# Altium integrated library LEDs.IntLib: 10 symbols
Pins are listed as number, name and electrical type; pins without a type are passive.

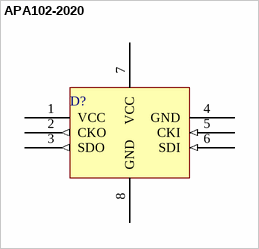
[diagram p0: symbol APA102-2020]

## APA102-2020
designator D?  (value not drawn)
DotStar Micro LEDs (APA102 2020) - Smart SMD RGB LED; Manufacturer: Adafruit Industries; PartNumber: APA102-2020; PackageReference: SMD-6; PackageDescription: SMD-6; Mounting Technology: Surface Mount
footprint APA102-2020
pins: 1 VCC (power), 2 CKO (out), 3 SDO (out), 4 GND (power), 5 CKI (in), 6 SDI (in), 7 VCC (power), 8 GND (power)


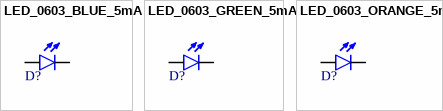
[diagram p1: symbols LED_0603_BLUE_5mA to LED_0603_ORANGE_5mA]

## LED_0603_BLUE_5mA
designator D?
PartNumber: LTST-C193TBKT-5A; Manufacturer: Lite-On Inc.; PackageReference: 0603; PackageDescription: 0603 (1608 Metric); Mounting Technology: Surface Mount
footprint LED0603
pins: A, C

## LED_0603_GREEN_5mA
designator D?
PartNumber: LTST-C193TGKT-5A; Manufacturer: Lite-On Inc.; PackageReference: 0603; PackageDescription: 0603 (1608 Metric); Mounting Technology: Surface Mount
footprint LED0603
pins: A, C

## LED_0603_ORANGE_5mA
designator D?
PartNumber: LTST-C193KFKT-5A; Manufacturer: Lite-On Inc.; PackageReference: 0603; PackageDescription: 0603 (1608 Metric); Mounting Technology: Surface Mount
footprint LED0603
pins: A, C


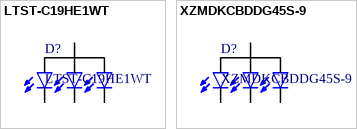
[diagram p2: symbols LTST-C19HE1WT to XZMDKCBDDG45S-9]

## LTST-C19HE1WT
designator D?
Manufacturer: Lite-On Inc.; PartNumber: LTST-C19HE1WT; PackageReference: 0606; Mounting Technology: Surface Mount; PackageDescription: 0606 (1616 Metric)
footprint LED0606 (LED, RGB (common anode), 0606 chip package)
pins: 1 K_Red, 2 K_Green, 3 K_Blue, 4 A

## XZMDKCBDDG45S-9
designator D?
Manufacturer: SunLED; PartNumber: XZMDKCBDDG45S-9; PackageReference: 4-PLCC; Mounting Technology: Surface Mount; PackageDescription: 4-SMD, Gull Wing,  3.20mm L x 2.80mm W
footprint XZMDKCBDDG45S-9
pins: 1 K_Red, 2 A, 3 K_Blue, 4 K_Green


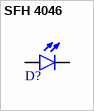
[diagram p3: symbol SFH 4046]

## SFH 4046
designator D?
Manufacturer: Osram; PartNumber: SFH 4046; PackageReference: 1206; PackageDescription: 1206 (3216 Metric); Mounting Technology: Surface Mount
footprint LED1206
pins: A, C


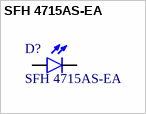
[diagram p4: symbol SFH 4715AS-EA]

## SFH 4715AS-EA
designator D?
Manufacturer: Osram; PartNumber: SFH 4715AS-EA; Mounting Technology: Surface Mount; Package Reference: SMD-3
footprint SFH 4715AS
pins: A, C


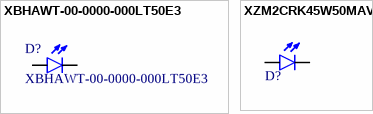
[diagram p5: symbols XBHAWT-00-0000-000LT50E3 to XZM2CRK45W50MAV-6]

## XBHAWT-00-0000-000LT50E3
designator D?
Manufacturer: Cree, Inc.; PartNumber: XBHAWT-00-0000-000LT50E3; PackageReference: SMD-2; Mounting Technology: Surface Mount
footprint XBHAWT
pins: A, C

## XZM2CRK45W50MAV-6
designator D?
PartNumber: XZM2CRK45W50MAV-6; Manufacturer: SunLED; PackageReference: 1411; PackageDescription: 1411 (3528 Metric); Mounting Technology: Surface Mount
footprint LED1411 (LED, 1411 chip package)
pins: A, C